# Altium schematic symbol library Transformer_EFR.SchLib: 10 symbols
Pins are listed as number, name and electrical type; pins without a type are passive.

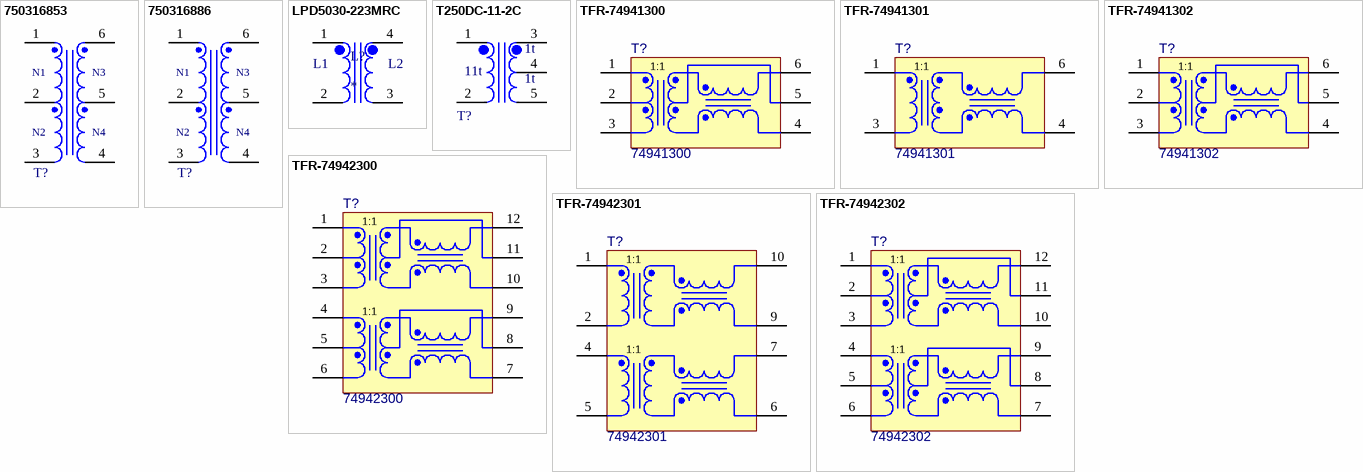
[diagram p0: symbols 750316853 to TFR-74942302]

## 750316853
designator T?  (value not drawn)
WE-PPTI Push-Pull Transformer, SMT, size 1408, Ui = 3.3V, Uo = 12V / 0.165A; Manufacturer: Wurth Elektronik; Case/Size Code: 1408; Inductance: 200uH; Input Voltage: 3.3VDC; Insulation Test Voltage: 2500V (AC); Switching Frequency: 200 - 600kHz; Turns Ratio: 1:4; Type of Insulation: Supplementary; Voltage-Time: 15Vus; Manufacturer Part Number: 750316853; Category: Transformers For DC-DC Converter; Match Code: WE-PPTI; ComponentLink1Description: Website Link; ComponentLink1URL: https://www.we-online.com/redexpert/article/750316853?ad; ComponentLink2Description: Datasheet Link; ComponentLink2URL: https://www.we-online.com/redexpert/spec/750316853?ad; Mount: Surface Mount; Operating Temperature Max: 125°C; Operating Temperature Min: -40°C; Packaging: Tape and Reel; Length: 14.75mm; Width: 8.3mm; Height: 4.2mm; Output Current 1: 0.165A; Output Voltage 1: 12V
footprint WE-PPTI_1408_L14.75W8.3H4.2 (Push-Pull Transformer, SMT, body 14.75 x 8.3 mm)
pins: 1, 2, 3, 4, 5, 6
text: N1; N3; N2; N4

## 750316886
designator T?  (value not drawn)
WE-PPTI Push-Pull Transformer, SMT, size 1408, Ui = 5V, Uo = 5V / 0.95A; Manufacturer: Wurth Elektronik; Case/Size Code: 1408; Inductance: 200uH; Input Voltage: 5VDC; Insulation Test Voltage: 2500V (AC); Switching Frequency: 200 - 400kHz; Turns Ratio: 1:1.17; Type of Insulation: Supplementary; Voltage-Time: 15Vus; Manufacturer Part Number: 750316886; Category: Transformers For DC-DC Converter; Match Code: WE-PPTI; ComponentLink1Description: Website Link; ComponentLink1URL: https://www.we-online.com/redexpert/article/750316886?ad; ComponentLink2Description: Datasheet Link; ComponentLink2URL: https://www.we-online.com/redexpert/spec/750316886?ad; Mount: Surface Mount; Operating Temperature Max: 125°C; Operating Temperature Min: -40°C; Packaging: Tape and Reel; Length: 14.75mm; Width: 8.3mm; Height: 4.2mm; Output Current 1: 0.95A; Output Voltage 1: 5V
footprint WE-PPTI_1408_L14.75W8.3H4.2 (Push-Pull Transformer, SMT, body 14.75 x 8.3 mm)
pins: 1, 2, 3, 4, 5, 6
text: N1; N3; N2; N4

## LPD5030-223MRC
designator L?
Coupled Inductors LPD5030 Low Profile 22uH 0.99A 20% SMD; MP: LPD5030-223MRC; MF: Coilcraft; Package: None; Check_prices: https://www.snapeda.com/parts/LPD5030-223MRC/Coilcraft/view-part/?ref=eda; Availability: In Stock; Value: *; SnapEDA_Link: https://www.snapeda.com/parts/LPD5030-223MRC/Coilcraft/view-part/?ref=snap; Price: None; Purchase-URL: https://pricing.snapeda.com/search/part/LPD5030-223MRC/?ref=eda
footprint IND_LPD5030-223MRC
footprint LPD5030103MRC
pins: 1, 2, 3, 4
text: L1; L2

## T250DC-11-2C
designator T?  (value not drawn)
1830W (24V /76A) Planar Transformer for LLC DCDC; Vin: 286V-300V; Operating Freq: 200khz-500kHz; Prim. Inductance: 18uH +-3%
footprint T250DC-11-2C (Planar Transformer Footprint)
pins: 1, 2, 3, 4, 5
text: 1t; 11t

## TFR-74941300
designator T?, comment 74941300
WE-BMS Transformer for Battery Management Systems, SMT, 1 Port, 1000VDC; Manufacturer: Wurth Elektronik; Creepage Distance: 6mm; Insulation Test Voltage: 4300VDC; Number of Ports: 1; ComponentLink1Description: Website Link; ComponentLink1URL: https://www.we-online.com/redexpert/article/74941300?ad; ComponentLink2Description: Datasheet Link; ComponentLink2URL: https://www.we-online.com/redexpert/spec/74941300?ad; PartNumber: 74941300; Category: Signal Transformers; Match Code: WE-BMS; Mount: Surface Mount; Operating Temperature Max: 125°C; Operating Temperature Min: -40°C; Packaging: Tape and Reel; Length: 9.5mm; Width: 7.6mm; Height: 5.5mm; Working Voltage: 1000VDC; ComponentLink3Description: Overview PDF; ComponentLink3URL: https://www.we-online.com/katalog/media/o695998v410%20OCP_BMS_V6.pdf
footprint WE-BMS_74941300 (SMT transformer, body 7.60x9.50mm)
pins: 1, 2, 3, 4, 5, 6
text: 1:1

## TFR-74941301
designator T?, comment 74941301
WE-BMS Transformer for Battery Management Systems, SMT, 1 Port, 1000VDC; Manufacturer: Wurth Elektronik; Creepage Distance: 6mm; Insulation Test Voltage: 4300VDC; Number of Ports: 1; ComponentLink1Description: Website Link; ComponentLink1URL: https://www.we-online.com/redexpert/article/74941301?ad; ComponentLink2Description: Datasheet Link; ComponentLink2URL: https://www.we-online.com/redexpert/spec/74941301?ad; PartNumber: 74941301; Category: Signal Transformers; Match Code: WE-BMS; Mount: Surface Mount; Operating Temperature Max: 125°C; Operating Temperature Min: -40°C; Packaging: Tape and Reel; Length: 9.5mm; Width: 7.6mm; Height: 5.5mm; Working Voltage: 1000VDC; ComponentLink3Description: Overview PDF; ComponentLink3URL: https://www.we-online.com/katalog/media/o695998v410%20OCP_BMS_V6.pdf
footprint WE-BMS_74941301
pins: 1, 3, 4, 6
text: 1:1

## TFR-74941302
designator T?, comment 74941302
WE-BMS Transformer for Battery Management Systems, SMT, 1 Port, 1000VDC; Manufacturer: Wurth Elektronik; Creepage Distance: 10mm; Insulation Test Voltage: 4300VDC; Number of Ports: 1; ComponentLink1Description: Website Link; ComponentLink1URL: https://www.we-online.com/redexpert/article/74941302?ad; ComponentLink2Description: Datasheet Link; ComponentLink2URL: https://www.we-online.com/redexpert/spec/74941302?ad; PartNumber: 74941302; Category: Signal Transformers; Match Code: WE-BMS; Mount: Surface Mount; Operating Temperature Max: 125°C; Operating Temperature Min: -40°C; Packaging: Tape and Reel; Length: 15.4mm; Width: 9.5mm; Height: 3.45mm; Working Voltage: 1000VDC; ComponentLink3Description: Overview PDF; ComponentLink3URL: https://www.we-online.com/katalog/media/o695998v410%20OCP_BMS_V6.pdf
footprint WE-BMS_74941302
pins: 1, 2, 3, 4, 5, 6
text: 1:1

## TFR-74942300
designator T?, comment 74942300
WE-BMS Transformer for Battery Management Systems, SMT, 2 Port, 1000VDC; Manufacturer: Wurth Elektronik; Creepage Distance: 10mm; Insulation Test Voltage: 4300VDC; Number of Ports: 2; ComponentLink1Description: Website Link; ComponentLink1URL: https://www.we-online.com/redexpert/article/74942300?ad; ComponentLink2Description: Datasheet Link; ComponentLink2URL: https://www.we-online.com/redexpert/spec/74942300?ad; PartNumber: 74942300; Category: Signal Transformers; Match Code: WE-BMS; Mount: Surface Mount; Operating Temperature Max: 125°C; Operating Temperature Min: -40°C; Packaging: Tape and Reel; Length: 14.7mm; Width: 15.1mm; Height: 3.45mm; Working Voltage: 1000VDC; ComponentLink3Description: Overview PDF; ComponentLink3URL: https://www.we-online.com/katalog/media/o695998v410%20OCP_BMS_V6.pdf
footprint WE-BMS_74942300
pins: 1, 2, 3, 4, 5, 6, 7, 8, 9, 10, 11, 12
text: 1:1

## TFR-74942301
designator T?, comment 74942301
WE-BMS Transformer for Battery Management Systems, SMT, 2 Port, 1000VDC; Manufacturer: Wurth Elektronik; Creepage Distance: 10mm; Insulation Test Voltage: 4300VDC; Number of Ports: 2; ComponentLink1Description: Website Link; ComponentLink1URL: https://www.we-online.com/redexpert/article/74942301?ad; ComponentLink2Description: Datasheet Link; ComponentLink2URL: https://www.we-online.com/redexpert/spec/74942301?ad; PartNumber: 74942301; Category: Signal Transformers; Match Code: WE-BMS; Mount: Surface Mount; Operating Temperature Max: 125°C; Operating Temperature Min: -40°C; Packaging: Tape and Reel; Length: 14.9mm; Width: 15.1mm; Height: 3.45mm; Working Voltage: 1000VDC; ComponentLink3Description: Overview PDF; ComponentLink3URL: https://www.we-online.com/katalog/media/o695998v410%20OCP_BMS_V6.pdf
footprint WE-BMS_74942301
pins: 1, 2, 4, 5, 6, 7, 9, 10
text: 1:1

## TFR-74942302
designator T?, comment 74942302
WE-BMS Transformer for Battery Management Systems, SMT, 2 Port, 1000VDC; Manufacturer: Wurth Elektronik; Creepage Distance: 10mm; Insulation Test Voltage: 4300VDC; Number of Ports: 2; ComponentLink1Description: Website Link; ComponentLink1URL: https://www.we-online.com/redexpert/article/74942302?ad; ComponentLink2Description: Datasheet Link; ComponentLink2URL: https://www.we-online.com/redexpert/spec/74942302?ad; PartNumber: 74942302; Category: Signal Transformers; Match Code: WE-BMS; Mount: Surface Mount; Operating Temperature Max: 125°C; Operating Temperature Min: -40°C; Packaging: Tape and Reel; Length: 15.4mm; Width: 15.1mm; Height: 3.45mm; Working Voltage: 1000VDC; ComponentLink3Description: Overview PDF; ComponentLink3URL: https://www.we-online.com/katalog/media/o695998v410%20OCP_BMS_V6.pdf
footprint WE-BMS_74942302
pins: 1, 2, 3, 4, 5, 6, 7, 8, 9, 10, 11, 12
text: 1:1